# Altium schematic symbol library Stanley7Seg.SchLib: 1 symbol
Pins are listed as number, name and electrical type; pins without a type are passive.

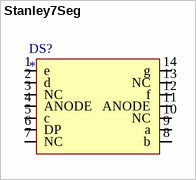
[diagram p0: symbol Stanley7Seg]

## Stanley7Seg
designator DS?
MfrPartNo: *
pins: 1 e, 2 d, 3 NC, 4 ANODE, 5 c, 6 DP, 7 NC, 8 b, 9 a, 10 NC, 11 ANODE, 12 f, 13 NC, 14 g